# Altium schematic symbol library lattice-cpld.SchLib: 1 symbol
Pins are listed as number, name and electrical type; pins without a type are passive.

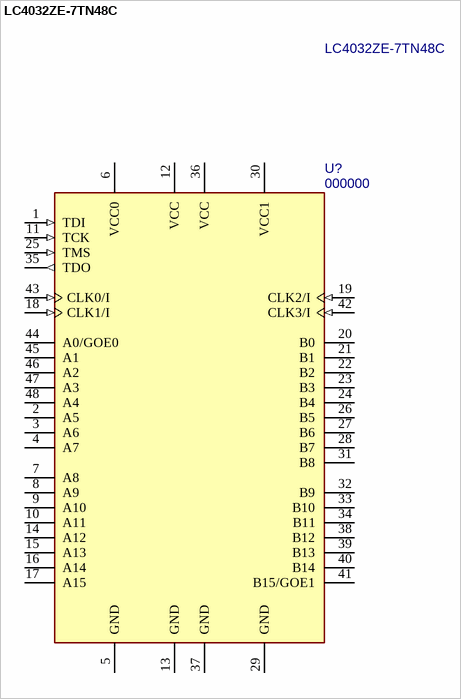
[diagram p0: symbol LC4032ZE-7TN48C]

## LC4032ZE-7TN48C
designator U?, comment 000000  value LC4032ZE-7TN48C
CPLD, 64 Macrocells, Low Power; PN: 000000; Package: 48-TQFP; ExtraInfo: *
footprint 48-TQFP-M (TSQFP, 48-Leads, Body 9.0x9.0mm (max), Pitch 0.50mm, IPC Medium Density)
pins: 1 TDI (in), 2 A5, 3 A6, 4 A7, 5 GND (power), 6 VCC0 (power), 7 A8, 8 A9, 9 A10, 10 A11, 11 TCK (in), 12 VCC (power), 13 GND (power), 14 A12, 15 A13, 16 A14, 17 A15, 18 CLK1/I (in), 19 CLK2/I (in), 20 B0, 21 B1, 22 B2, 23 B3, 24 B4, 25 TMS (in), 26 B5, 27 B6, 28 B7, 29 GND (power), 30 VCC1 (power), 31 B8, 32 B9, 33 B10, 34 B11, 35 TDO (out), 36 VCC (power), 37 GND (power), 38 B12, 39 B13, 40 B14, 41 B15/GOE1, 42 CLK3/I (in), 43 CLK0/I (in), 44 A0/GOE0, 45 A1, 46 A2, 47 A3, 48 A4